# Altium footprint library Capacitor_0603_TPS65130.PcbLib: 1 footprints
Each footprint in its own frame and in the unit in brackets; x right, y up, seen from the top. Pads: shape width x height; smd on the part's side, far side on the other; paste and mask are expansions set on the pad; w line width, h text height; cw(c..) or ccw(c..) is an arc to the next point about the centre after c.
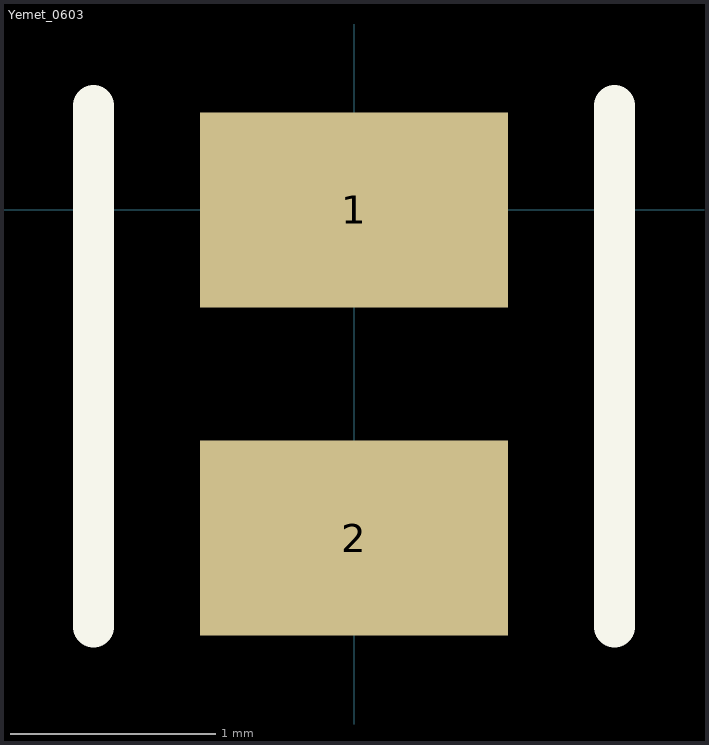
[diagram p0: the footprint, top view; thin cyan lines are the x and y axes]

## Yemet_0603 [mm] "220nF 16V X7R 10%"
pads (2):
  rect 1.5x0.95 smd: 1(0,0) 2(0,-1.6)
Top Overlay:
  lines w0.2: -1.27,-2.032 -1.27,0.508 ; 1.27,-2.032 1.27,0.508